# EAGLE library part BMM150 (library mylib)
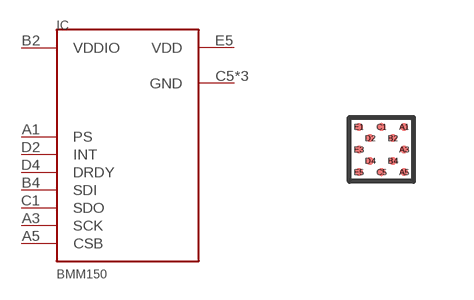
[diagram p118: symbol with the pads of BMM150; footprint BMM150]

Designator prefix IC

## BMM150  [BMM150]
A1  PS
A3  SCK
A5  CSB
B2  VDDIO  pwr
B4  SDI
C1  SDO
C5  GND  pas
D2  INT
D4  DRDY
E1  GND  pas
E3  GND  pas
E5  VDD  pwr

## Footprint BMM150 (pad centres in mm)
smd 0.2 x 0.2: A1 0.566,0.566; A3 0.566,0; A5 0.566,-0.566; B2 0.283,0.283; B4 0.283,-0.283; C1 0,0.566; C5 0,-0.566; D2 -0.283,0.283; D4 -0.283,-0.283; E1 -0.566,0.566; E3 -0.566,0; E5 -0.566,-0.566